# Altium footprint library D_Actives.PcbLib: 7 footprints
Each footprint in its own frame and in the unit in brackets; x right, y up, seen from the top. Pads: shape width x height; smd on the part's side, far side on the other; paste and mask are expansions set on the pad; w line width, h text height; cw(c..) or ccw(c..) is an arc to the next point about the centre after c.
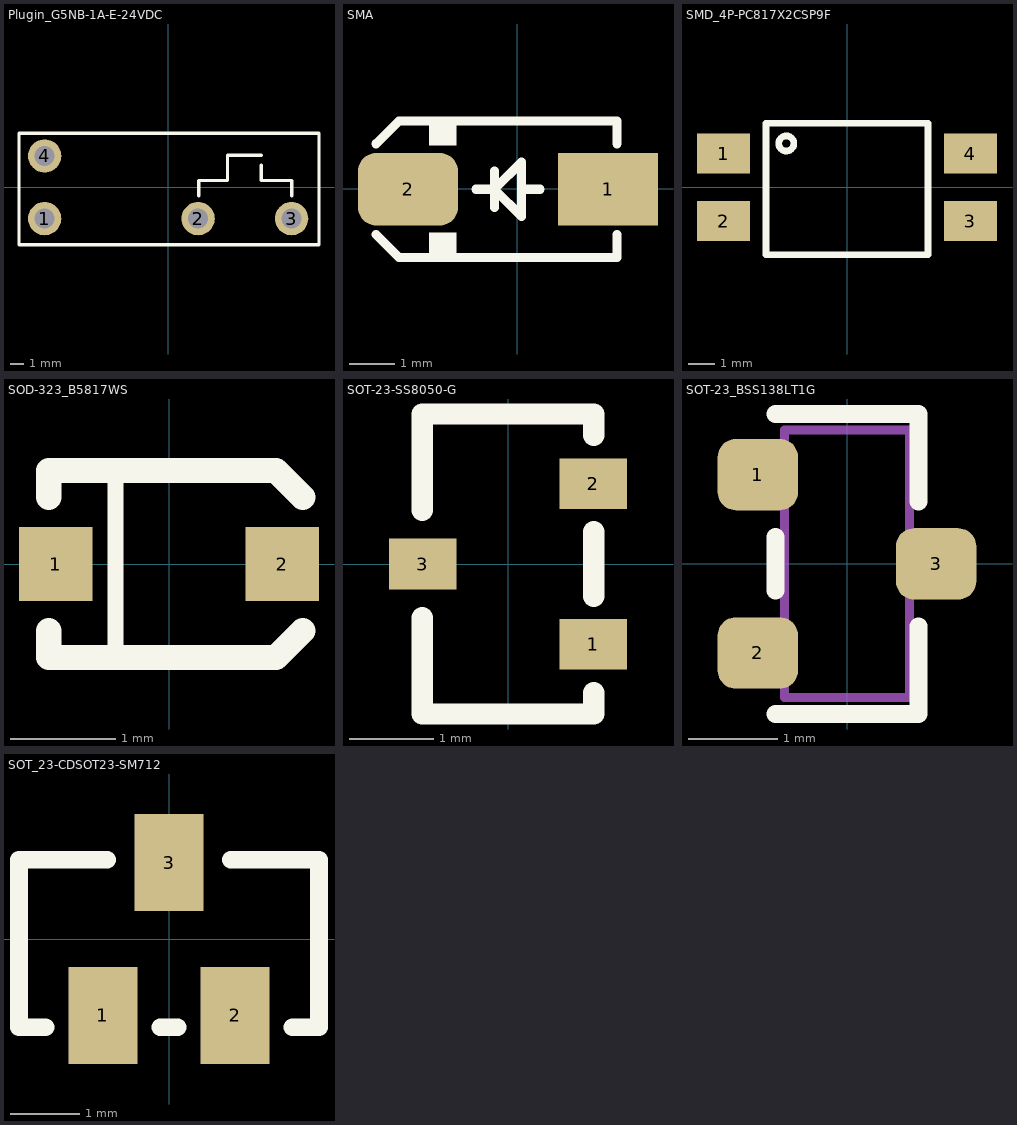
[diagram p0: the footprints below, top view; thin cyan lines are the x and y axes]

## Plugin_G5NB-1A-E-24VDC [mm] "24V 5A One Normally Open: 1A (SPST-NO) Plugin,7x20.4mm Power Relays ROHS"
pads (4):
  round 2.5 hole 1.5: 1(-9.25,-2.35) 2(2.25,-2.35) 3(9.25,-2.35) 4(-9.25,2.35)
Top Overlay:
  lines w0.254: 2.286,-0.635 2.286,0.508 4.445,0.508 4.445,2.413 6.985,2.413 ; 6.985,1.651 6.985,0.508 9.271,0.508 9.271,-0.635 ; -11.176,-4.318 -11.176,4.064 -10.287,4.064 11.303,4.064 11.303,-4.318 -11.176,-4.318
3D body "G5NB_1A_E.step": height 15.3, standoff -3.4, extent -10.25,-3.644 10.25,3.556

## SMA [mm]
pads (2):
  rect 2.2x1.6 smd: 1(1.999,-0.006)
  rrect50% 2.2x1.6 smd: 2(-2.401,-0.006)
Top Overlay:
  region: -1.334,1.553 -1.934,1.553 -1.934,0.953 -1.334,0.953
  region: -1.334,-0.953 -1.934,-0.953 -1.934,-1.553 -1.334,-1.553
  lines w0.2: -3.101,-1.006 -2.601,-1.506 2.199,-1.506 2.199,-1.006 ; -3.101,0.994 -2.601,1.494 2.199,1.494 2.199,0.994 ; -0.901,-0.006 -0.501,-0.006 ; -0.501,-0.406 -0.501,0.394 ; 0.099,-0.006 0.499,-0.006 ; -0.501,-0.006 0.099,-0.606 0.099,0.594 -0.501,-0.006
3D body "User Library-DIOM5528X26.step": height 2.6, standoff 0.03, extent -3.004,-1.4 2.496,1.4

## SMD_4P-PC817X2CSP9F [mm]
pads (4):
  rect 2x1.5 smd: 1(-4.65,1.27) 2(-4.65,-1.27) 3(4.65,-1.27) 4(4.65,1.27)
Top Overlay:
  circle w0.254: c-2.286,1.651 r0.284
  lines w0.254: -3.048,-2.54 3.048,-2.54 3.048,2.413 -3.048,2.413 -3.048,-2.54
3D body "PC817-B.STEP": height 4, standoff 0, extent -4.875,-2.29 4.875,2.29

## SOD-323_B5817WS [mm]
pads (2):
  rect 0.7x0.7 smd: 1(-1.075,0) 2(1.075,0)
Top Overlay:
  lines w0.15: -0.508,-0.889 -0.508,0.889
  lines w0.24: -1.143,-0.635 -1.143,-0.889 1.016,-0.889 1.27,-0.635 ; -1.143,0.635 -1.143,0.889 1.016,0.889 1.27,0.635
3D body "B5819WS-TP.STEP": height 1.15, standoff 0, extent -1.25,-0.625 1.25,0.625

## SOT-23-SS8050-G [mm]
pads (3):
  rect 0.8x0.6 smd: 1(1.01,-0.95) 2(1.01,0.95) 3(-1.01,0)
Top Overlay:
  lines w0.254: -1.016,-0.635 -1.016,-1.778 1.016,-1.778 1.016,-1.524 ; -1.016,0.635 -1.016,1.778 1.016,1.778 1.016,1.524 ; 1.016,-0.381 1.016,0.381
3D body "SS8050-G-.STEP": height 1.14, standoff 0, extent -1.2,-1.448 1.2,1.448

## SOT-23_BSS138LT1G [mm] "50V 200mA 225mW 5.6Ω@2.75V 500mV 1 N-channel SOT-23 MOSFETs ROHS"
pads (3):
  rrect50% 0.9x0.8 smd mask+0.1: 1(-1,1) 2(-1,-1) 3(1,0)
Top Overlay:
  lines w0.2: -0.8,-1.684 0.8,-1.684 0.8,-0.7 ; -0.8,-0.3 -0.8,0.3 ; -0.8,1.68 0.8,1.68 0.8,0.7
Mechanical 13:
  lines w0.1: -0.7,-1.5 0.7,-1.5 0.7,1.5 -0.7,1.5 -0.7,-1.5
3D body "User Library-SOT23-2.STEP": height 1.08, standoff 0, extent -1.32,-1.5 1.32,1.5

## SOT_23-CDSOT23-SM712 [mm]
pads (3):
  rect 1x1.4 smd: 1(-0.95,-1.1) 2(0.95,-1.1) 3(0,1.1)
Top Overlay:
  lines w0.254: -1.778,-1.27 -2.159,-1.27 -2.159,1.143 -0.889,1.143 ; -0.127,-1.27 0.127,-1.27 ; 0.889,1.143 2.159,1.143 2.159,-1.27 1.778,-1.27
3D body "CDSOT23-SM712.STEP": height 1.17, standoff 0, extent -1.45,-1.275 1.45,1.021